# EAGLE library part ESP32-CAM (library ESP32-Cam-Pico-V4)
Modules PCBA Module RoHS Source: Datasheet <https://datasheet.lcsc.com/szlcsc/Ai-Thinker-ESP32-CAM_C277946.pdf>
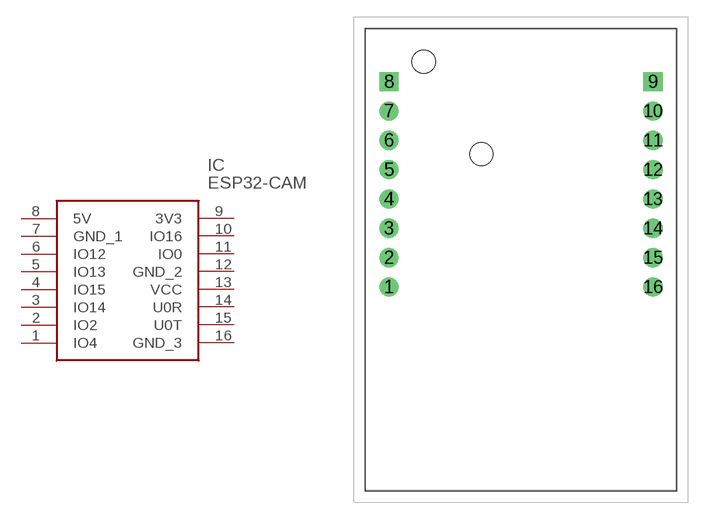
[diagram p1: symbol with the pads of ESP32CAM; footprint ESP32CAM]

Designator prefix IC

## ESP32-CAM (DESCRIPTION: Modules PCBA Module RoHS; HEIGHT: 5mm; MANUFACTURER_NAME: Ai-Thinker; MANUFACTURER_PART_NUMBER: ESP32-CAM)  [ESP32CAM]
1  IO4
2  IO2
3  IO14
4  IO15
5  IO13
6  IO12
7  GND_1
8  5V
9  3V3
10  IO16
11  IO0
12  GND_2
13  VCC
14  U0R
15  U0T
16  GND_3

## Footprint ESP32CAM (pad centres in mm)
ESP32-CAM-2
drill 1.11 pad 1.665: 1 0,0; 2 0,2.54; 3 0,5.08; 4 0,7.62; 5 0,10.16; 6 0,12.7; 7 0,15.24; 10 22.86,15.24; 11 22.86,12.7; 12 22.86,10.16; 13 22.86,7.62; 14 22.86,5.08; 15 22.86,2.54; 16 22.86,0
drill 1.11 pad 1.665 square: 8 0,17.78; 9 22.86,17.78
hole 2 at 3,19.508
hole 2 at 8,11.508